# EAGLE library part BNO055 (library Badge_v202004081200_Eagle_Library_regex)
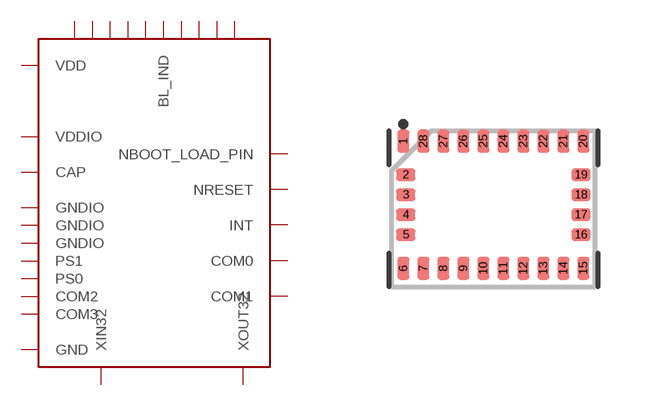
[diagram p2: symbol with the pads of PQFN28P50_505X385X118L47X25N; footprint PQFN28P50_505X385X118L47X25N]

Designator prefix U

## BNO055 (MANUFACTURER: Bosch-Sensortec; VALUE: BNO055)  [PQFN28P50_505X385X118L47X25N]
1  DNC  nc
2  GND  nc
3  VDD  nc
4  NBOOT_LOAD_PIN  nc
5  PS1  nc
6  PS0  nc
7  DNC  nc
8  DNC  nc
9  CAP  nc
10  BL_IND  nc
11  NRESET  nc
12  DNC  nc
13  DNC  nc
14  INT  nc
15  GNDIO  nc
16  GNDIO  nc
17  COM3  nc
18  COM2  nc
19  COM1  nc
20  COM0  nc
21  DNC  nc
22  DNC  nc
23  DNC  nc
24  DNC  nc
25  GNDIO  nc
26  XOUT32  nc
27  XIN32  nc
28  VDDIO  nc

## Footprint PQFN28P50_505X385X118L47X25N (pad centres in mm)
smd 0.3 x 0.575: 1 -2.302,1.643; 6 -2.302,-1.538; 7 -1.802,-1.538; 8 -1.302,-1.538; 9 -0.802,-1.538; 10 -0.302,-1.538; 11 0.198,-1.538; 12 0.698,-1.538; 13 1.198,-1.538; 14 1.698,-1.538; 15 2.198,-1.538; 20 2.198,1.643; 21 1.698,1.643; 22 1.198,1.643; 23 0.698,1.643; 24 0.198,1.643; 25 -0.302,1.643; 26 -0.802,1.643; 27 -1.302,1.643; 28 -1.802,1.643
smd 0.475 x 0.3: 2 -2.242,0.803; 3 -2.242,0.303; 4 -2.242,-0.197; 5 -2.242,-0.697; 16 2.138,-0.697; 17 2.138,-0.197; 18 2.138,0.303; 19 2.138,0.803